# Altium integrated library lib_maxim.IntLib: 1 symbol
Pins are listed as number, name and electrical type; pins without a type are passive.

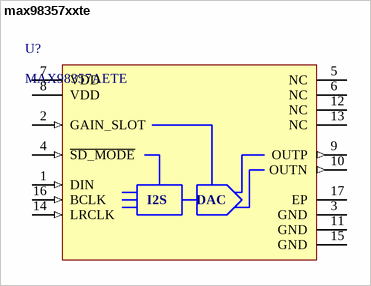
[diagram p0: symbol max98357xxte]

## max98357xxte
designator U?, comment MAX98357AETE
Tiny, Low-Cost, PCM Class D Amplifier with Class AB Performance; ComponentLink1Description: Datasheet; ComponentLink1URL: https://datasheets.maximintegrated.com/en/ds/MAX98357A-MAX98357B.pdf; Supplier 1: Digi-Key; Supplier Part Number 1: MAX98357AETE+TCT-ND; Supplier 2: Digi-Key; Supplier Part Number 2: MAX98357AETE+TDKR-ND; Supplier 3: Digi-Key; Supplier Part Number 3: MAX98357AETE+TTR-ND; Supplier 4: Mouser; Supplier Part Number 4: 700-MAX98357AETE+T; Supplier 5: LCSC; Supplier Part Number 5: C910544
footprint QFN50P300X300X80_HS-17N_MAX98357xxTE (QFN, 16-Leads, Body 3.00x3.00mm, Pitch 0.50mm, Thermal Pad 1.23x1.23mm, IPC Medium Density)
pins: 1 DIN (in), 2 GAIN_SLOT (in), 3 GND (power), 4 ~{SD_MODE} (in), 5 NC, 6 NC, 7 VDD (power), 8 VDD (power), 9 OUTP (out), 10 OUTN (out), 11 GND (power), 12 NC, 13 NC, 14 LRCLK (in), 15 GND (power), 16 BCLK (in), 17 EP
text: I2S; DAC